# Altium schematic symbol library microchip.SCHLIB: 3 symbols
Pins are listed as number, name and electrical type; pins without a type are passive.

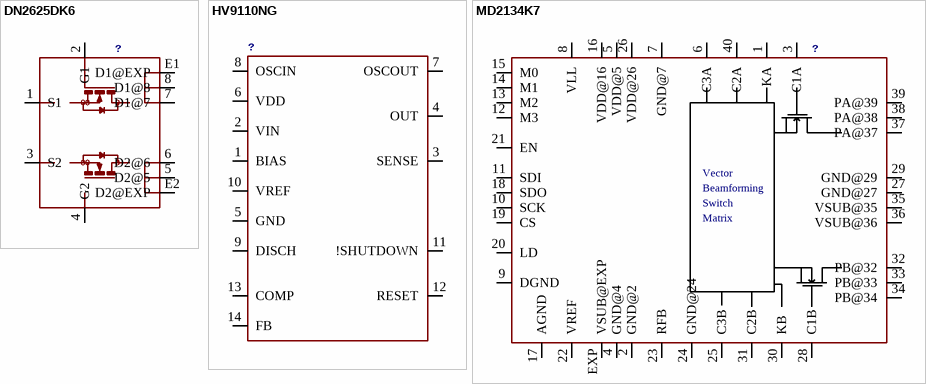
[diagram p0: symbols DN2625DK6 to MD2134K7]

## DN2625DK6
designator ?
footprint DFN8K6
pins: 1 S1, 2 G1, 3 S2, 4 G2, 5 D2@5, 6 D2@6, 7 D1@7, 8 D1@8, E1 D1@EXP, E2 D2@EXP

## HV9110NG
designator ?
footprint SOIC14
pins: 1 BIAS, 2 VIN, 3 SENSE, 4 OUT, 5 GND (power), 6 VDD (power), 7 OSCOUT, 8 OSCIN, 9 DISCH, 10 VREF, 11 !SHUTDOWN, 12 RESET, 13 COMP, 14 FB

## MD2134K7
designator ?
MPN: MD2134K7
footprint QFN40-5X5
pins: 1 KA, 2 GND@2 (power), 3 C1A, 4 GND@4 (power), 5 VDD@5 (power), 6 C3A, 7 GND@7 (power), 8 VLL (power), 9 DGND (power), 10 SCK, 11 SDI, 12 M3, 13 M2, 14 M1, 15 M0, 16 VDD@16 (power), 17 AGND (power), 18 SDO, 19 CS, 20 LD, 21 EN, 22 VREF (power), 23 RFB, 24 GND@24 (power), 25 C3B, 26 VDD@26 (power), 27 GND@27 (power), 28 C1B, 29 GND@29 (power), 30 KB, 31 C2B, 32 PB@32, 33 PB@33, 34 PB@34, 35 VSUB@35 (power), 36 VSUB@36 (power), 37 PA@37, 38 PA@38, 39 PA@39, 40 C2A, EXP VSUB@EXP (power)
text: Vector; Beamforming; Switch; Matrix